# EAGLE library part 74LVC1G11DW (library mbed-ics)
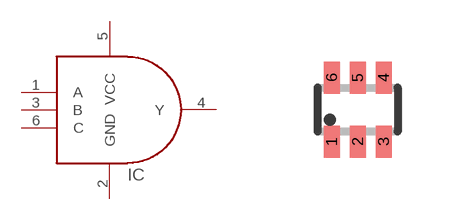
[diagram p17: symbol with the pads of SOT363_PHILIPS; footprint SOT363_PHILIPS]

Designator prefix IC

## 74LVC1G11DW  [SOT363_PHILIPS]
1  A
2  GND
3  B
4  Y
5  VCC
6  C

## Footprint SOT363_PHILIPS (pad centres in mm)
Small Outline Transistor; 6 leads Philips Semiconductors, SOT363.pdf
smd 0.4 x 0.8: 1 -0.65,-0.8; 2 0,-0.8; 3 0.65,-0.8; 4 0.65,0.8; 5 0,0.8; 6 -0.65,0.8